# Altium footprint library PcbLib1.PcbLib: 3 footprints
Each footprint in its own frame and in the unit in brackets; x right, y up, seen from the top. Pads: shape width x height; smd on the part's side, far side on the other; paste and mask are expansions set on the pad; w line width, h text height; cw(c..) or ccw(c..) is an arc to the next point about the centre after c.
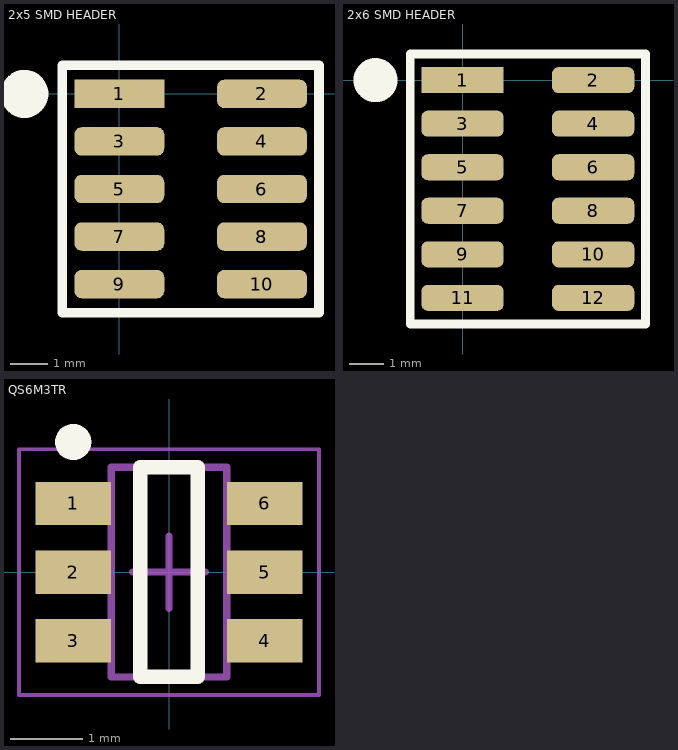
[diagram p0: the footprints below, top view; thin cyan lines are the x and y axes]

## 2x5 SMD HEADER [mm]
pads (10):
  rect 2.4x0.76 smd: 1(0,0)
  rrect50% 2.4x0.76 smd: 2(3.81,0) 3(0,-1.27) 4(3.81,-1.27) 5(0,-2.54) 6(3.81,-2.54) 7(0,-3.81) 8(3.81,-3.81) 9(0,-5.08) 10(3.81,-5.08)
Top Overlay:
  circle w1: c-2.54,0 r0.141
  lines w0.254: -1.524,-5.842 5.334,-5.842 5.334,0.762 -1.524,0.762 -1.524,-5.842

## 2x6 SMD HEADER [mm]
pads (12):
  rect 2.4x0.76 smd: 1(0,0)
  rrect50% 2.4x0.76 smd: 2(3.81,0) 3(0,-1.27) 4(3.81,-1.27) 5(0,-2.54) 6(3.81,-2.54) 7(0,-3.81) 8(3.81,-3.81) 9(0,-5.08) 10(3.81,-5.08) 11(0,-6.35) 12(3.81,-6.35)
Top Overlay:
  circle w1: c-2.54,0 r0.141
  lines w0.254: -1.524,-7.112 5.334,-7.112 5.334,0.762 -1.524,0.762 -1.524,-7.112

## QS6M3TR [mm] "SOT23, 6-Leads, Body 2.90x2.80mm, Pitch 0.95mm, IPC Medium Density"
height 1
pads (6):
  rect 1.05x0.6 smd: 1(-1.325,0.95) 2(-1.325,0) 3(-1.325,-0.95) 4(1.325,-0.95) 5(1.325,0) 6(1.325,0.95)
Top Overlay:
  circle w0.25: c-1.325,1.8 r0.125
  lines w0.2: -0.4,-1.45 0.4,-1.45 0.4,1.45 -0.4,1.45 -0.4,-1.45
Mechanical 13:
  lines w0.1: -0.8,-1.45 -0.8,1.45 0.8,1.45 0.8,-1.45 -0.8,-1.45
Mechanical 15:
  lines w0.05: -2.075,-1.7 -2.075,1.7 2.075,1.7 2.075,-1.7 -2.075,-1.7
  lines w0.1: -0.5,0 0.5,0 ; 0,-0.5 0,0.5
3D body "SOT95P280X100-6N.step": height 1, standoff 0, extent -1.4,-1.45 1.4,1.45